# Altium schematic symbol library MAX6816EUS_T.SchLib: 1 symbol
Pins are listed as number, name and electrical type; pins without a type are passive.

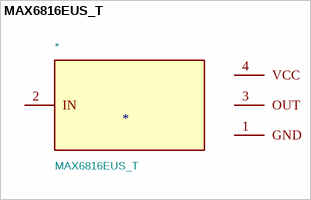
[diagram p0: symbol MAX6816EUS_T]

## MAX6816EUS_T
designator *  value MAX6816EUS_T
Manufacturer: Maxim Integrated; Footprint: MAX6816EUS_T:SOT192P237X122-4N; Package: SOT192P237X122-4N
footprint SOT192P237X122-4N
pins: 1 GND, 2 IN, 3 OUT, 4 VCC